# EAGLE library part PINHD-1X7 (library h8-pinhead)
PIN HEADER
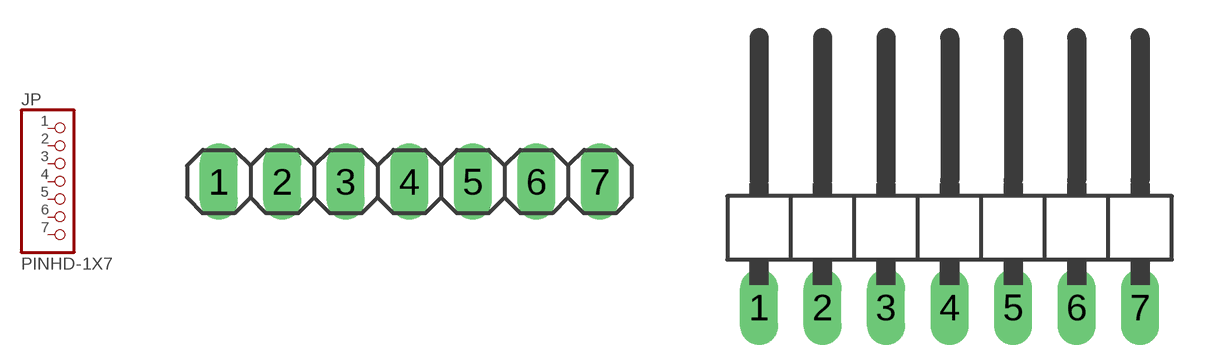
[diagram p31: symbol with the pads of 1X07; footprints 1X07, 1X07/90]

Designator prefix JP

## PINHD-1X7_2.54  [1X07]
1  1  pas
2  2  pas
3  3  pas
4  4  pas
5  5  pas
6  6  pas
7  7  pas

## PINHD-1X7_2.54-90°  [1X07/90]
Pads as for 1X07

## PINHD-1X7_2.00  [1X07M]
Pads as for 1X07

## PINHD-1X7_2.54-SMD  [1X07SMD]
Pads as for 1X07

## PINHD-1X7_2.54-SMD-90°  [1X07SMD/90]
Pads as for 1X07

## Footprint 1X07 (pad centres in mm)
PIN HEADER - 2.54
drill 1.016 long: 1 -7.62,0; 2 -5.08,0; 3 -2.54,0; 4 0,0; 5 2.54,0; 6 5.08,0; 7 7.62,0

## Footprint 1X07/90 (pad centres in mm)
PIN HEADER - 2.54 90°
drill 1.016 long: 1 -7.62,-3.81; 2 -5.08,-3.81; 3 -2.54,-3.81; 4 0,-3.81; 5 2.54,-3.81; 6 5.08,-3.81; 7 7.62,-3.81

## Footprint 1X07M (pad centres in mm)
PIN HEADER - 2
drill 0.914 square: 1 -6,0
drill 0.914: 2 -4,0; 3 -2,0; 4 0,0; 5 2,0; 6 4,0; 7 6,0

## Footprint 1X07SMD (pad centres in mm)
PIN HEADER - 2.54 SMD
smd 1.016 x 3.302: 1 -1.27,1.27; 2 1.27,-1.27; 3 3.81,1.27; 4 6.35,-1.27; 5 8.89,1.27; 6 11.43,-1.27; 7 13.97,1.27

## Footprint 1X07SMD/90 (pad centres in mm)
PIN HEADER - 2.54 90°
smd 1.016 x 1.778: 1 -1.27,-5.08; 2 1.27,-5.08; 3 3.81,-5.08; 4 6.35,-5.08; 5 8.89,-5.08; 6 11.43,-5.08; 7 13.97,-5.08